# Altium integrated library Linear Technology Power Management Power Control.IntLib: 661 symbols (part 33 of 43)
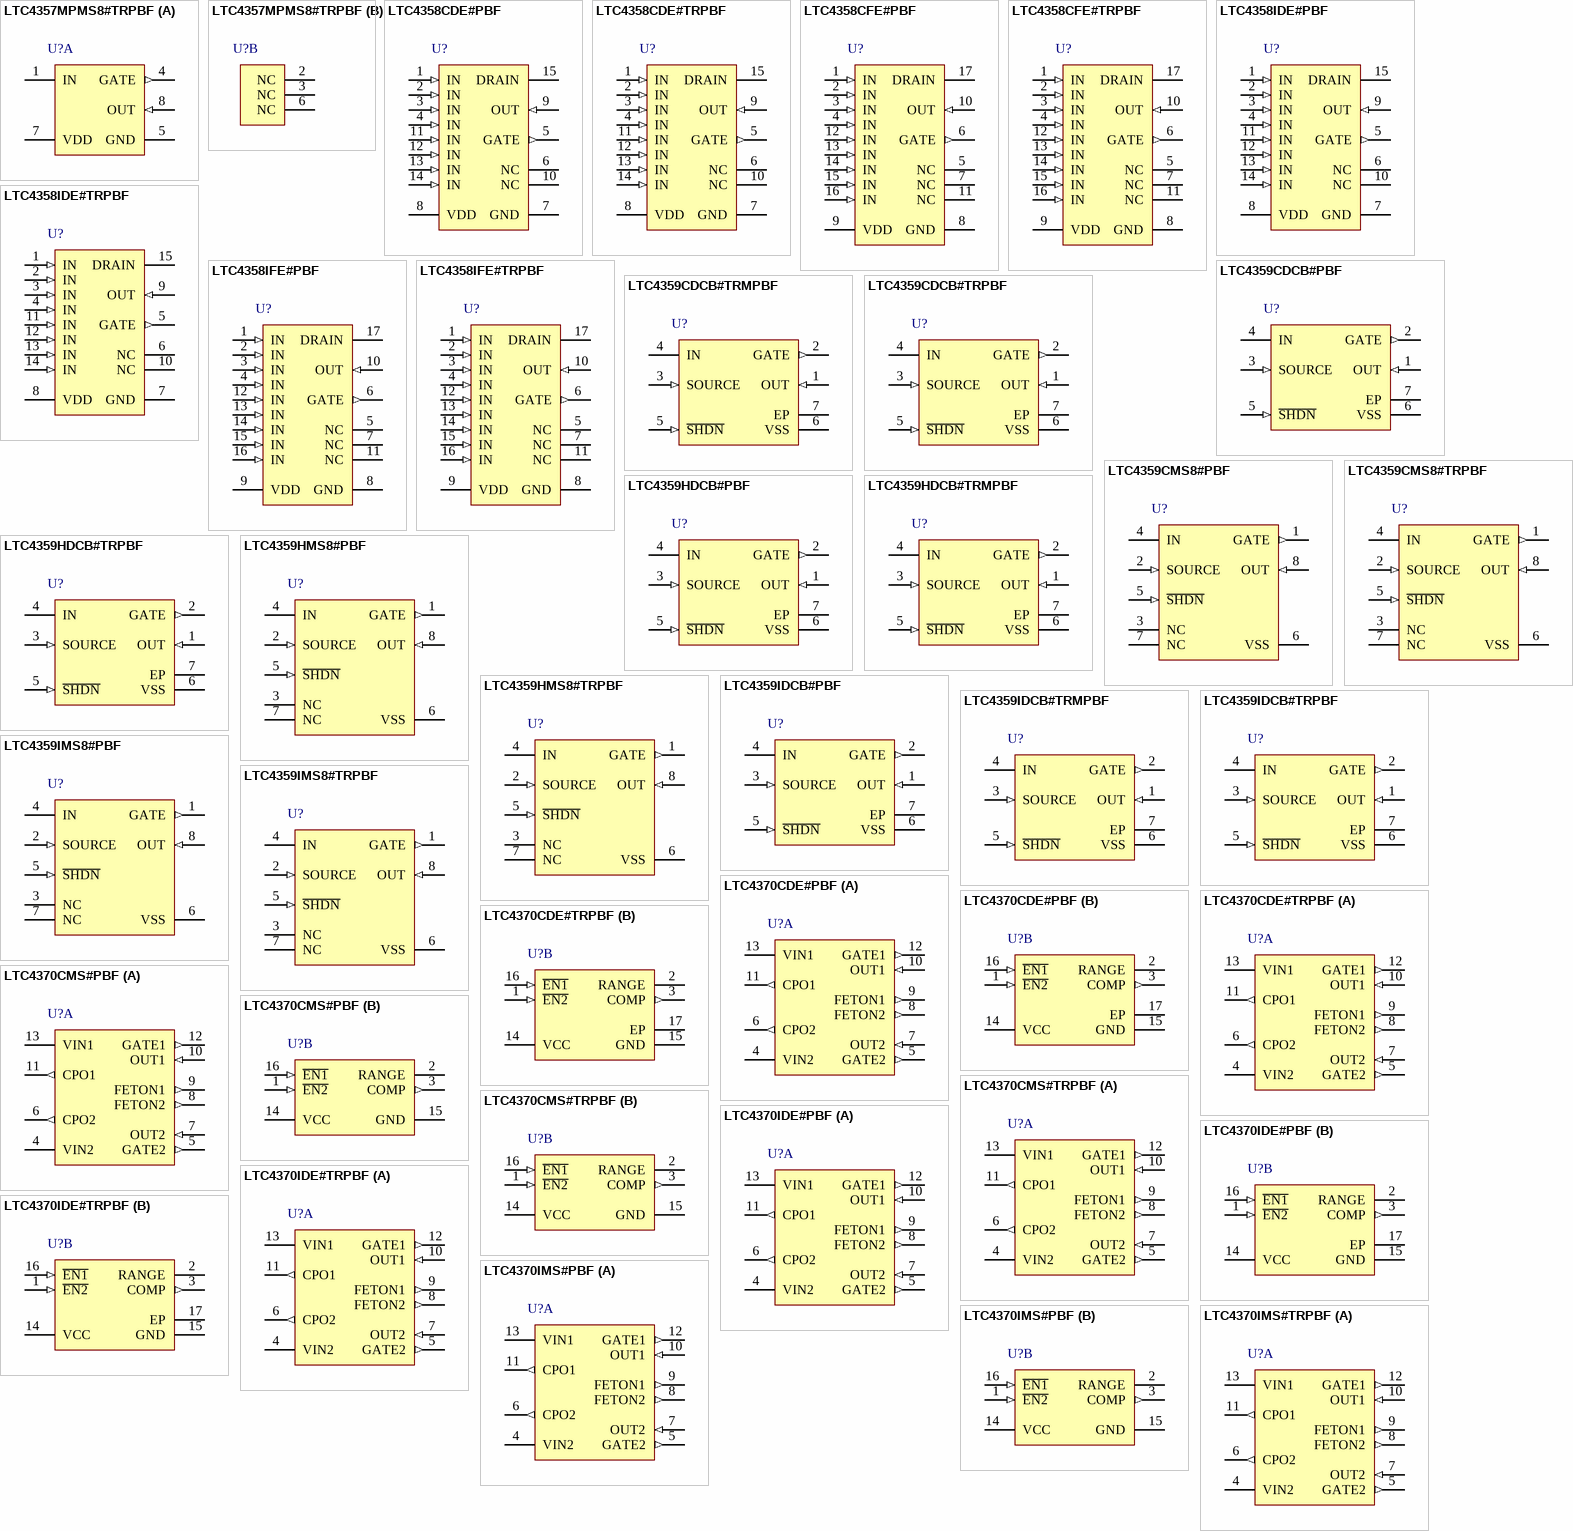
[diagram p51: symbols LTC4357MPMS8#TRPBF to LTC4370IMS#TRPBF]

## LTC4359CDCB#TRPBF
designator U?
Ideal Diode Controller with Reverse Input Protection, 4 to 80 V Vin, 6-pin SON (DCB-6), 0 to 70 degC, Pb-Free, Tape and Reel; Manufacturer: Linear Technology; PartNumber: LTC4359CDCB#TRPBF; Ideal Diode: Single, External, N-Channel; PackageVersion: Rev. A, 03/2011; PackageReference: DCB-6; PackageDescription: 6-Pin Plastic DFN, Body 2 x 3 mm, Pitch 0.5 mm; Supplier 1: Digi-Key; Supplier Part Number 1: LTC4359CDCB#TRPBF-ND; Packing: Tape and Reel; RoHS: TRUE; Mounting Technology: Surface Mount; Code_JEDEC: MO-229; ComponentLink1Description: Manufacturer URL; ComponentLink1URL: http://www.linear.com/; ComponentLink2Description: Datasheet; ComponentLink2URL: http://cds.linear.com/docs/en/datasheet/4359f.pdf; ComponentLink3Description: Package Specification; ComponentLink3URL: http://www.linear.com/docs/en/packaging/(DCB6)%20DFN%2005-08-1715%20Rev%20A.pdf
footprint LT-DCB-6_V (SON, 6-Leads, Body 3x2mm, Pitch 0.5mm, Thermal Pad 1.65x1.35mm)
pins: 1 OUT (in) "Drain Voltage Sense. OUT is the cathode of the ideal diode and the common output when multiple LTC4359s are configured as an ideal diode-OR. It connects either directly or through a 2k resistor to the drain of the N-channel (See Datasheet)", 2 GATE (out) "Gate Drive Output. The GATE pin pulls high, enhancing the N-channel MOSFET when the load current creates more than 30mV of voltage drop across the MOSFET. When the load current is small the gate is actively driven to (See Datasheet)", 3 SOURCE (in) "Source Connection. Source is the return path of the gate fast pull-down. Connect this pin as close as possible to the source of the external N-channel MOSFET.", 4 IN (power) "Voltage Sense and Supply Voltage. IN is the anode of the ideal diode. The voltage sensed at this pin is used to control the MOSFET gate.", 5 ~{SHDN} (in) "Shutdown Control Input. The LTC4359 can be shut down to a low current mode by pulling the S\H\D\N\ pin below 0.6V. Pulling this pin above 2V or disconnecting it allows an internal 2uA current source to turn the part on. (See Datasheet)", 6 VSS (power) "Supply Voltage Return and Device Ground.", 7 EP (power) "Exposed pad may be left open or connected to VSS."

## LTC4359CMS8#PBF
designator U?
Ideal Diode Controller with Reverse Input Protection, 4 to 80 V Vin, 8-pin SOP (MS8-8), 0 to 70 degC, Pb-Free; Manufacturer: Linear Technology; PartNumber: LTC4359CMS8#PBF; Ideal Diode: Single, External, N-Channel; PackageVersion: Rev. G, 03/2012; PackageReference: MS8-8; PackageDescription: 8-Pin Plastic MSOP, Body 3 x 3 mm, Pitch 0.65 mm; Supplier 1: Digi-Key; Supplier Part Number 1: LTC4359CMS8#PBF-ND; Supplier 2: Newark; Supplier Part Number 2: 94T1309; RoHS: TRUE; Mounting Technology: Surface Mount; ComponentLink1Description: Manufacturer URL; ComponentLink1URL: http://www.linear.com/; ComponentLink2Description: Datasheet; ComponentLink2URL: http://cds.linear.com/docs/en/datasheet/4359f.pdf; ComponentLink3Description: Package Specification; ComponentLink3URL: http://cds.linear.com/docs/en/packaging/05081660_G_MS8.pdf
footprint LT-MS8-8_N (SOP, 8-Leads, Body 3.1x3.1mm, Pitch 0.65mm, IPC Medium Density)
footprint LT-MS8-8_L (SOP, 8-Leads, Body 3.1x3.1mm, Pitch 0.65mm, IPC High Density)
footprint LT-MS8-8_M (SOP, 8-Leads, Body 3.1x3.1mm, Pitch 0.65mm, IPC Low Density)
pins: 1 GATE (out) "Gate Drive Output. The GATE pin pulls high, enhancing the N-channel MOSFET when the load current creates more than 30mV of voltage drop across the MOSFET. When the load current is small the gate is actively driven to (See Datasheet)", 2 SOURCE (in) "Source Connection. Source is the return path of the gate fast pull-down. Connect this pin as close as possible to the source of the external N-channel MOSFET.", 3 NC "No Connection. Not internally connected.", 4 IN (power) "Voltage Sense and Supply Voltage. IN is the anode of the ideal diode. The voltage sensed at this pin is used to control the MOSFET gate.", 5 ~{SHDN} (in) "Shutdown Control Input. The LTC4359 can be shut down to a low current mode by pulling the S\H\D\N\ pin below 0.6V. Pulling this pin above 2V or disconnecting it allows an internal 2uA current source to turn the part on. (See Datasheet)", 6 VSS (power) "Supply Voltage Return and Device Ground.", 7 NC "No Connection. Not internally connected.", 8 OUT (in) "Drain Voltage Sense. OUT is the cathode of the ideal diode and the common output when multiple LTC4359s are configured as an ideal diode-OR. It connects either directly or through a 2k resistor to the drain of the N-channel (See Datasheet)"

## LTC4359CMS8#TRPBF
designator U?
Ideal Diode Controller with Reverse Input Protection, 4 to 80 V Vin, 8-pin SOP (MS8-8), 0 to 70 degC, Pb-Free, Tape and Reel; Manufacturer: Linear Technology; PartNumber: LTC4359CMS8#TRPBF; Ideal Diode: Single, External, N-Channel; PackageVersion: Rev. G, 03/2012; PackageReference: MS8-8; PackageDescription: 8-Pin Plastic MSOP, Body 3 x 3 mm, Pitch 0.65 mm; Supplier 1: Digi-Key; Supplier Part Number 1: LTC4359CMS8#TRPBF-ND; Supplier 2: Newark; Supplier Part Number 2: 94T1310; Packing: Tape and Reel; RoHS: TRUE; Mounting Technology: Surface Mount; ComponentLink1Description: Manufacturer URL; ComponentLink1URL: http://www.linear.com/; ComponentLink2Description: Datasheet; ComponentLink2URL: http://cds.linear.com/docs/en/datasheet/4359f.pdf; ComponentLink3Description: Package Specification; ComponentLink3URL: http://cds.linear.com/docs/en/packaging/05081660_G_MS8.pdf
footprint LT-MS8-8_N (SOP, 8-Leads, Body 3.1x3.1mm, Pitch 0.65mm, IPC Medium Density)
footprint LT-MS8-8_L (SOP, 8-Leads, Body 3.1x3.1mm, Pitch 0.65mm, IPC High Density)
footprint LT-MS8-8_M (SOP, 8-Leads, Body 3.1x3.1mm, Pitch 0.65mm, IPC Low Density)
pins: 1 GATE (out) "Gate Drive Output. The GATE pin pulls high, enhancing the N-channel MOSFET when the load current creates more than 30mV of voltage drop across the MOSFET. When the load current is small the gate is actively driven to (See Datasheet)", 2 SOURCE (in) "Source Connection. Source is the return path of the gate fast pull-down. Connect this pin as close as possible to the source of the external N-channel MOSFET.", 3 NC "No Connection. Not internally connected.", 4 IN (power) "Voltage Sense and Supply Voltage. IN is the anode of the ideal diode. The voltage sensed at this pin is used to control the MOSFET gate.", 5 ~{SHDN} (in) "Shutdown Control Input. The LTC4359 can be shut down to a low current mode by pulling the S\H\D\N\ pin below 0.6V. Pulling this pin above 2V or disconnecting it allows an internal 2uA current source to turn the part on. (See Datasheet)", 6 VSS (power) "Supply Voltage Return and Device Ground.", 7 NC "No Connection. Not internally connected.", 8 OUT (in) "Drain Voltage Sense. OUT is the cathode of the ideal diode and the common output when multiple LTC4359s are configured as an ideal diode-OR. It connects either directly or through a 2k resistor to the drain of the N-channel (See Datasheet)"

## LTC4359HDCB#PBF
designator U?
Ideal Diode Controller with Reverse Input Protection, 4 to 80 V Vin, 6-pin SON (DCB-6), -40 to 125 degC, Pb-Free; Manufacturer: Linear Technology; PartNumber: LTC4359HDCB#PBF; Ideal Diode: Single, External, N-Channel; PackageVersion: Rev. A, 03/2011; PackageReference: DCB-6; PackageDescription: 6-Pin Plastic DFN, Body 2 x 3 mm, Pitch 0.5 mm; RoHS: TRUE; Mounting Technology: Surface Mount; Code_JEDEC: MO-229; ComponentLink1Description: Manufacturer URL; ComponentLink1URL: http://www.linear.com/; ComponentLink2Description: Datasheet; ComponentLink2URL: http://cds.linear.com/docs/en/datasheet/4359f.pdf; ComponentLink3Description: Package Specification; ComponentLink3URL: http://www.linear.com/docs/en/packaging/(DCB6)%20DFN%2005-08-1715%20Rev%20A.pdf
footprint LT-DCB-6_V (SON, 6-Leads, Body 3x2mm, Pitch 0.5mm, Thermal Pad 1.65x1.35mm)
pins: 1 OUT (in) "Drain Voltage Sense. OUT is the cathode of the ideal diode and the common output when multiple LTC4359s are configured as an ideal diode-OR. It connects either directly or through a 2k resistor to the drain of the N-channel (See Datasheet)", 2 GATE (out) "Gate Drive Output. The GATE pin pulls high, enhancing the N-channel MOSFET when the load current creates more than 30mV of voltage drop across the MOSFET. When the load current is small the gate is actively driven to (See Datasheet)", 3 SOURCE (in) "Source Connection. Source is the return path of the gate fast pull-down. Connect this pin as close as possible to the source of the external N-channel MOSFET.", 4 IN (power) "Voltage Sense and Supply Voltage. IN is the anode of the ideal diode. The voltage sensed at this pin is used to control the MOSFET gate.", 5 ~{SHDN} (in) "Shutdown Control Input. The LTC4359 can be shut down to a low current mode by pulling the S\H\D\N\ pin below 0.6V. Pulling this pin above 2V or disconnecting it allows an internal 2uA current source to turn the part on. (See Datasheet)", 6 VSS (power) "Supply Voltage Return and Device Ground.", 7 EP (power) "Exposed pad may be left open or connected to VSS."

## LTC4359HDCB#TRMPBF
designator U?
Ideal Diode Controller with Reverse Input Protection, 4 to 80 V Vin, 6-pin SON (DCB-6), -40 to 125 degC, Pb-Free, Mini Tape and Reel; Manufacturer: Linear Technology; PartNumber: LTC4359HDCB#TRMPBF; Ideal Diode: Single, External, N-Channel; PackageVersion: Rev. A, 03/2011; PackageReference: DCB-6; PackageDescription: 6-Pin Plastic DFN, Body 2 x 3 mm, Pitch 0.5 mm; Supplier 1: Digi-Key; Supplier Part Number 1: LTC4359HDCB#TRMPBF-ND; Supplier 2: Newark; Supplier Part Number 2: 94T1311; Packing: Mini Tape and Reel; RoHS: TRUE; Mounting Technology: Surface Mount; Code_JEDEC: MO-229; ComponentLink1Description: Manufacturer URL; ComponentLink1URL: http://www.linear.com/; ComponentLink2Description: Datasheet; ComponentLink2URL: http://cds.linear.com/docs/en/datasheet/4359f.pdf; ComponentLink3Description: Package Specification; ComponentLink3URL: http://www.linear.com/docs/en/packaging/(DCB6)%20DFN%2005-08-1715%20Rev%20A.pdf
footprint LT-DCB-6_V (SON, 6-Leads, Body 3x2mm, Pitch 0.5mm, Thermal Pad 1.65x1.35mm)
pins: 1 OUT (in) "Drain Voltage Sense. OUT is the cathode of the ideal diode and the common output when multiple LTC4359s are configured as an ideal diode-OR. It connects either directly or through a 2k resistor to the drain of the N-channel (See Datasheet)", 2 GATE (out) "Gate Drive Output. The GATE pin pulls high, enhancing the N-channel MOSFET when the load current creates more than 30mV of voltage drop across the MOSFET. When the load current is small the gate is actively driven to (See Datasheet)", 3 SOURCE (in) "Source Connection. Source is the return path of the gate fast pull-down. Connect this pin as close as possible to the source of the external N-channel MOSFET.", 4 IN (power) "Voltage Sense and Supply Voltage. IN is the anode of the ideal diode. The voltage sensed at this pin is used to control the MOSFET gate.", 5 ~{SHDN} (in) "Shutdown Control Input. The LTC4359 can be shut down to a low current mode by pulling the S\H\D\N\ pin below 0.6V. Pulling this pin above 2V or disconnecting it allows an internal 2uA current source to turn the part on. (See Datasheet)", 6 VSS (power) "Supply Voltage Return and Device Ground.", 7 EP (power) "Exposed pad may be left open or connected to VSS."

## LTC4359HDCB#TRPBF
designator U?
Ideal Diode Controller with Reverse Input Protection, 4 to 80 V Vin, 6-pin SON (DCB-6), -40 to 125 degC, Pb-Free, Tape and Reel; Manufacturer: Linear Technology; PartNumber: LTC4359HDCB#TRPBF; Ideal Diode: Single, External, N-Channel; PackageVersion: Rev. A, 03/2011; PackageReference: DCB-6; PackageDescription: 6-Pin Plastic DFN, Body 2 x 3 mm, Pitch 0.5 mm; Supplier 1: Digi-Key; Supplier Part Number 1: LTC4359HDCB#TRPBF-ND; Supplier 2: Newark; Supplier Part Number 2: 94T1312; Packing: Tape and Reel; RoHS: TRUE; Mounting Technology: Surface Mount; Code_JEDEC: MO-229; ComponentLink1Description: Manufacturer URL; ComponentLink1URL: http://www.linear.com/; ComponentLink2Description: Datasheet; ComponentLink2URL: http://cds.linear.com/docs/en/datasheet/4359f.pdf; ComponentLink3Description: Package Specification; ComponentLink3URL: http://www.linear.com/docs/en/packaging/(DCB6)%20DFN%2005-08-1715%20Rev%20A.pdf
footprint LT-DCB-6_V (SON, 6-Leads, Body 3x2mm, Pitch 0.5mm, Thermal Pad 1.65x1.35mm)
pins: 1 OUT (in) "Drain Voltage Sense. OUT is the cathode of the ideal diode and the common output when multiple LTC4359s are configured as an ideal diode-OR. It connects either directly or through a 2k resistor to the drain of the N-channel (See Datasheet)", 2 GATE (out) "Gate Drive Output. The GATE pin pulls high, enhancing the N-channel MOSFET when the load current creates more than 30mV of voltage drop across the MOSFET. When the load current is small the gate is actively driven to (See Datasheet)", 3 SOURCE (in) "Source Connection. Source is the return path of the gate fast pull-down. Connect this pin as close as possible to the source of the external N-channel MOSFET.", 4 IN (power) "Voltage Sense and Supply Voltage. IN is the anode of the ideal diode. The voltage sensed at this pin is used to control the MOSFET gate.", 5 ~{SHDN} (in) "Shutdown Control Input. The LTC4359 can be shut down to a low current mode by pulling the S\H\D\N\ pin below 0.6V. Pulling this pin above 2V or disconnecting it allows an internal 2uA current source to turn the part on. (See Datasheet)", 6 VSS (power) "Supply Voltage Return and Device Ground.", 7 EP (power) "Exposed pad may be left open or connected to VSS."

## LTC4359HMS8#PBF
designator U?
Ideal Diode Controller with Reverse Input Protection, 4 to 80 V Vin, 8-pin SOP (MS8-8), -40 to 125 degC, Pb-Free; Manufacturer: Linear Technology; PartNumber: LTC4359HMS8#PBF; Ideal Diode: Single, External, N-Channel; PackageVersion: Rev. G, 03/2012; PackageReference: MS8-8; PackageDescription: 8-Pin Plastic MSOP, Body 3 x 3 mm, Pitch 0.65 mm; Supplier 1: Digi-Key; Supplier Part Number 1: LTC4359HMS8#PBF-ND; Supplier 2: Newark; Supplier Part Number 2: 94T1313; RoHS: TRUE; Mounting Technology: Surface Mount; ComponentLink1Description: Manufacturer URL; ComponentLink1URL: http://www.linear.com/; ComponentLink2Description: Datasheet; ComponentLink2URL: http://cds.linear.com/docs/en/datasheet/4359f.pdf; ComponentLink3Description: Package Specification; ComponentLink3URL: http://cds.linear.com/docs/en/packaging/05081660_G_MS8.pdf
footprint LT-MS8-8_N (SOP, 8-Leads, Body 3.1x3.1mm, Pitch 0.65mm, IPC Medium Density)
footprint LT-MS8-8_L (SOP, 8-Leads, Body 3.1x3.1mm, Pitch 0.65mm, IPC High Density)
footprint LT-MS8-8_M (SOP, 8-Leads, Body 3.1x3.1mm, Pitch 0.65mm, IPC Low Density)
pins: 1 GATE (out) "Gate Drive Output. The GATE pin pulls high, enhancing the N-channel MOSFET when the load current creates more than 30mV of voltage drop across the MOSFET. When the load current is small the gate is actively driven to (See Datasheet)", 2 SOURCE (in) "Source Connection. Source is the return path of the gate fast pull-down. Connect this pin as close as possible to the source of the external N-channel MOSFET.", 3 NC "No Connection. Not internally connected.", 4 IN (power) "Voltage Sense and Supply Voltage. IN is the anode of the ideal diode. The voltage sensed at this pin is used to control the MOSFET gate.", 5 ~{SHDN} (in) "Shutdown Control Input. The LTC4359 can be shut down to a low current mode by pulling the S\H\D\N\ pin below 0.6V. Pulling this pin above 2V or disconnecting it allows an internal 2uA current source to turn the part on. (See Datasheet)", 6 VSS (power) "Supply Voltage Return and Device Ground.", 7 NC "No Connection. Not internally connected.", 8 OUT (in) "Drain Voltage Sense. OUT is the cathode of the ideal diode and the common output when multiple LTC4359s are configured as an ideal diode-OR. It connects either directly or through a 2k resistor to the drain of the N-channel (See Datasheet)"

## LTC4359HMS8#TRPBF
designator U?
Ideal Diode Controller with Reverse Input Protection, 4 to 80 V Vin, 8-pin SOP (MS8-8), -40 to 125 degC, Pb-Free, Tape and Reel; Manufacturer: Linear Technology; PartNumber: LTC4359HMS8#TRPBF; Ideal Diode: Single, External, N-Channel; PackageVersion: Rev. G, 03/2012; PackageReference: MS8-8; PackageDescription: 8-Pin Plastic MSOP, Body 3 x 3 mm, Pitch 0.65 mm; Supplier 1: Digi-Key; Supplier Part Number 1: LTC4359HMS8#TRPBF-ND; Packing: Tape and Reel; RoHS: TRUE; Mounting Technology: Surface Mount; ComponentLink1Description: Manufacturer URL; ComponentLink1URL: http://www.linear.com/; ComponentLink2Description: Datasheet; ComponentLink2URL: http://cds.linear.com/docs/en/datasheet/4359f.pdf; ComponentLink3Description: Package Specification; ComponentLink3URL: http://cds.linear.com/docs/en/packaging/05081660_G_MS8.pdf
footprint LT-MS8-8_N (SOP, 8-Leads, Body 3.1x3.1mm, Pitch 0.65mm, IPC Medium Density)
footprint LT-MS8-8_L (SOP, 8-Leads, Body 3.1x3.1mm, Pitch 0.65mm, IPC High Density)
footprint LT-MS8-8_M (SOP, 8-Leads, Body 3.1x3.1mm, Pitch 0.65mm, IPC Low Density)
pins: 1 GATE (out) "Gate Drive Output. The GATE pin pulls high, enhancing the N-channel MOSFET when the load current creates more than 30mV of voltage drop across the MOSFET. When the load current is small the gate is actively driven to (See Datasheet)", 2 SOURCE (in) "Source Connection. Source is the return path of the gate fast pull-down. Connect this pin as close as possible to the source of the external N-channel MOSFET.", 3 NC "No Connection. Not internally connected.", 4 IN (power) "Voltage Sense and Supply Voltage. IN is the anode of the ideal diode. The voltage sensed at this pin is used to control the MOSFET gate.", 5 ~{SHDN} (in) "Shutdown Control Input. The LTC4359 can be shut down to a low current mode by pulling the S\H\D\N\ pin below 0.6V. Pulling this pin above 2V or disconnecting it allows an internal 2uA current source to turn the part on. (See Datasheet)", 6 VSS (power) "Supply Voltage Return and Device Ground.", 7 NC "No Connection. Not internally connected.", 8 OUT (in) "Drain Voltage Sense. OUT is the cathode of the ideal diode and the common output when multiple LTC4359s are configured as an ideal diode-OR. It connects either directly or through a 2k resistor to the drain of the N-channel (See Datasheet)"

## LTC4359IDCB#PBF
designator U?
Ideal Diode Controller with Reverse Input Protection, 4 to 80 V Vin, 6-pin SON (DCB-6), -40 to 85 degC, Pb-Free; Manufacturer: Linear Technology; PartNumber: LTC4359IDCB#PBF; Ideal Diode: Single, External, N-Channel; PackageVersion: Rev. A, 03/2011; PackageReference: DCB-6; PackageDescription: 6-Pin Plastic DFN, Body 2 x 3 mm, Pitch 0.5 mm; RoHS: TRUE; Mounting Technology: Surface Mount; Code_JEDEC: MO-229; ComponentLink1Description: Manufacturer URL; ComponentLink1URL: http://www.linear.com/; ComponentLink2Description: Datasheet; ComponentLink2URL: http://cds.linear.com/docs/en/datasheet/4359f.pdf; ComponentLink3Description: Package Specification; ComponentLink3URL: http://www.linear.com/docs/en/packaging/(DCB6)%20DFN%2005-08-1715%20Rev%20A.pdf
footprint LT-DCB-6_V (SON, 6-Leads, Body 3x2mm, Pitch 0.5mm, Thermal Pad 1.65x1.35mm)
pins: 1 OUT (in) "Drain Voltage Sense. OUT is the cathode of the ideal diode and the common output when multiple LTC4359s are configured as an ideal diode-OR. It connects either directly or through a 2k resistor to the drain of the N-channel (See Datasheet)", 2 GATE (out) "Gate Drive Output. The GATE pin pulls high, enhancing the N-channel MOSFET when the load current creates more than 30mV of voltage drop across the MOSFET. When the load current is small the gate is actively driven to (See Datasheet)", 3 SOURCE (in) "Source Connection. Source is the return path of the gate fast pull-down. Connect this pin as close as possible to the source of the external N-channel MOSFET.", 4 IN (power) "Voltage Sense and Supply Voltage. IN is the anode of the ideal diode. The voltage sensed at this pin is used to control the MOSFET gate.", 5 ~{SHDN} (in) "Shutdown Control Input. The LTC4359 can be shut down to a low current mode by pulling the S\H\D\N\ pin below 0.6V. Pulling this pin above 2V or disconnecting it allows an internal 2uA current source to turn the part on. (See Datasheet)", 6 VSS (power) "Supply Voltage Return and Device Ground.", 7 EP (power) "Exposed pad may be left open or connected to VSS."

## LTC4359IDCB#TRMPBF
designator U?
Ideal Diode Controller with Reverse Input Protection, 4 to 80 V Vin, 6-pin SON (DCB-6), -40 to 85 degC, Pb-Free, Mini Tape and Reel; Manufacturer: Linear Technology; PartNumber: LTC4359IDCB#TRMPBF; Ideal Diode: Single, External, N-Channel; PackageVersion: Rev. A, 03/2011; PackageReference: DCB-6; PackageDescription: 6-Pin Plastic DFN, Body 2 x 3 mm, Pitch 0.5 mm; Supplier 1: Digi-Key; Supplier Part Number 1: LTC4359IDCB#TRMPBFTR-ND; Supplier 2: Digi-Key; Supplier Part Number 2: LTC4359IDCB#TRMPBFCT-ND; Supplier 3: Digi-Key; Supplier Part Number 3: LTC4359IDCB#TRMPBFDKR-ND; Supplier 4: Newark; Supplier Part Number 4: 94T1315; Packing: Mini Tape and Reel; RoHS: TRUE; Mounting Technology: Surface Mount; Code_JEDEC: MO-229; ComponentLink1Description: Manufacturer URL; ComponentLink1URL: http://www.linear.com/; ComponentLink2Description: Datasheet; ComponentLink2URL: http://cds.linear.com/docs/en/datasheet/4359f.pdf; ComponentLink3Description: Package Specification; ComponentLink3URL: http://www.linear.com/docs/en/packaging/(DCB6)%20DFN%2005-08-1715%20Rev%20A.pdf
footprint LT-DCB-6_V (SON, 6-Leads, Body 3x2mm, Pitch 0.5mm, Thermal Pad 1.65x1.35mm)
pins: 1 OUT (in) "Drain Voltage Sense. OUT is the cathode of the ideal diode and the common output when multiple LTC4359s are configured as an ideal diode-OR. It connects either directly or through a 2k resistor to the drain of the N-channel (See Datasheet)", 2 GATE (out) "Gate Drive Output. The GATE pin pulls high, enhancing the N-channel MOSFET when the load current creates more than 30mV of voltage drop across the MOSFET. When the load current is small the gate is actively driven to (See Datasheet)", 3 SOURCE (in) "Source Connection. Source is the return path of the gate fast pull-down. Connect this pin as close as possible to the source of the external N-channel MOSFET.", 4 IN (power) "Voltage Sense and Supply Voltage. IN is the anode of the ideal diode. The voltage sensed at this pin is used to control the MOSFET gate.", 5 ~{SHDN} (in) "Shutdown Control Input. The LTC4359 can be shut down to a low current mode by pulling the S\H\D\N\ pin below 0.6V. Pulling this pin above 2V or disconnecting it allows an internal 2uA current source to turn the part on. (See Datasheet)", 6 VSS (power) "Supply Voltage Return and Device Ground.", 7 EP (power) "Exposed pad may be left open or connected to VSS."

## LTC4359IDCB#TRPBF
designator U?
Ideal Diode Controller with Reverse Input Protection, 4 to 80 V Vin, 6-pin SON (DCB-6), -40 to 85 degC, Pb-Free, Tape and Reel; Manufacturer: Linear Technology; PartNumber: LTC4359IDCB#TRPBF; Ideal Diode: Single, External, N-Channel; PackageVersion: Rev. A, 03/2011; PackageReference: DCB-6; PackageDescription: 6-Pin Plastic DFN, Body 2 x 3 mm, Pitch 0.5 mm; Supplier 1: Digi-Key; Supplier Part Number 1: LTC4359IDCB#TRPBF-ND; Packing: Tape and Reel; RoHS: TRUE; Mounting Technology: Surface Mount; Code_JEDEC: MO-229; ComponentLink1Description: Manufacturer URL; ComponentLink1URL: http://www.linear.com/; ComponentLink2Description: Datasheet; ComponentLink2URL: http://cds.linear.com/docs/en/datasheet/4359f.pdf; ComponentLink3Description: Package Specification; ComponentLink3URL: http://www.linear.com/docs/en/packaging/(DCB6)%20DFN%2005-08-1715%20Rev%20A.pdf
footprint LT-DCB-6_V (SON, 6-Leads, Body 3x2mm, Pitch 0.5mm, Thermal Pad 1.65x1.35mm)
pins: 1 OUT (in) "Drain Voltage Sense. OUT is the cathode of the ideal diode and the common output when multiple LTC4359s are configured as an ideal diode-OR. It connects either directly or through a 2k resistor to the drain of the N-channel (See Datasheet)", 2 GATE (out) "Gate Drive Output. The GATE pin pulls high, enhancing the N-channel MOSFET when the load current creates more than 30mV of voltage drop across the MOSFET. When the load current is small the gate is actively driven to (See Datasheet)", 3 SOURCE (in) "Source Connection. Source is the return path of the gate fast pull-down. Connect this pin as close as possible to the source of the external N-channel MOSFET.", 4 IN (power) "Voltage Sense and Supply Voltage. IN is the anode of the ideal diode. The voltage sensed at this pin is used to control the MOSFET gate.", 5 ~{SHDN} (in) "Shutdown Control Input. The LTC4359 can be shut down to a low current mode by pulling the S\H\D\N\ pin below 0.6V. Pulling this pin above 2V or disconnecting it allows an internal 2uA current source to turn the part on. (See Datasheet)", 6 VSS (power) "Supply Voltage Return and Device Ground.", 7 EP (power) "Exposed pad may be left open or connected to VSS."

## LTC4359IMS8#PBF
designator U?
Ideal Diode Controller with Reverse Input Protection, 4 to 80 V Vin, 8-pin SOP (MS8-8), -40 to 85 degC, Pb-Free; Manufacturer: Linear Technology; PartNumber: LTC4359IMS8#PBF; Ideal Diode: Single, External, N-Channel; PackageVersion: Rev. G, 03/2012; PackageReference: MS8-8; PackageDescription: 8-Pin Plastic MSOP, Body 3 x 3 mm, Pitch 0.65 mm; Supplier 1: Digi-Key; Supplier Part Number 1: LTC4359IMS8#PBF-ND; Supplier 2: Newark; Supplier Part Number 2: 94T1317; RoHS: TRUE; Mounting Technology: Surface Mount; ComponentLink1Description: Manufacturer URL; ComponentLink1URL: http://www.linear.com/; ComponentLink2Description: Datasheet; ComponentLink2URL: http://cds.linear.com/docs/en/datasheet/4359f.pdf; ComponentLink3Description: Package Specification; ComponentLink3URL: http://cds.linear.com/docs/en/packaging/05081660_G_MS8.pdf
footprint LT-MS8-8_N (SOP, 8-Leads, Body 3.1x3.1mm, Pitch 0.65mm, IPC Medium Density)
footprint LT-MS8-8_L (SOP, 8-Leads, Body 3.1x3.1mm, Pitch 0.65mm, IPC High Density)
footprint LT-MS8-8_M (SOP, 8-Leads, Body 3.1x3.1mm, Pitch 0.65mm, IPC Low Density)
pins: 1 GATE (out) "Gate Drive Output. The GATE pin pulls high, enhancing the N-channel MOSFET when the load current creates more than 30mV of voltage drop across the MOSFET. When the load current is small the gate is actively driven to (See Datasheet)", 2 SOURCE (in) "Source Connection. Source is the return path of the gate fast pull-down. Connect this pin as close as possible to the source of the external N-channel MOSFET.", 3 NC "No Connection. Not internally connected.", 4 IN (power) "Voltage Sense and Supply Voltage. IN is the anode of the ideal diode. The voltage sensed at this pin is used to control the MOSFET gate.", 5 ~{SHDN} (in) "Shutdown Control Input. The LTC4359 can be shut down to a low current mode by pulling the S\H\D\N\ pin below 0.6V. Pulling this pin above 2V or disconnecting it allows an internal 2uA current source to turn the part on. (See Datasheet)", 6 VSS (power) "Supply Voltage Return and Device Ground.", 7 NC "No Connection. Not internally connected.", 8 OUT (in) "Drain Voltage Sense. OUT is the cathode of the ideal diode and the common output when multiple LTC4359s are configured as an ideal diode-OR. It connects either directly or through a 2k resistor to the drain of the N-channel (See Datasheet)"

## LTC4359IMS8#TRPBF
designator U?
Ideal Diode Controller with Reverse Input Protection, 4 to 80 V Vin, 8-pin SOP (MS8-8), -40 to 85 degC, Pb-Free, Tape and Reel; Manufacturer: Linear Technology; PartNumber: LTC4359IMS8#TRPBF; Ideal Diode: Single, External, N-Channel; PackageVersion: Rev. G, 03/2012; PackageReference: MS8-8; PackageDescription: 8-Pin Plastic MSOP, Body 3 x 3 mm, Pitch 0.65 mm; Supplier 1: Digi-Key; Supplier Part Number 1: LTC4359IMS8#TRPBF-ND; Packing: Tape and Reel; RoHS: TRUE; Mounting Technology: Surface Mount; ComponentLink1Description: Manufacturer URL; ComponentLink1URL: http://www.linear.com/; ComponentLink2Description: Datasheet; ComponentLink2URL: http://cds.linear.com/docs/en/datasheet/4359f.pdf; ComponentLink3Description: Package Specification; ComponentLink3URL: http://cds.linear.com/docs/en/packaging/05081660_G_MS8.pdf
footprint LT-MS8-8_N (SOP, 8-Leads, Body 3.1x3.1mm, Pitch 0.65mm, IPC Medium Density)
footprint LT-MS8-8_L (SOP, 8-Leads, Body 3.1x3.1mm, Pitch 0.65mm, IPC High Density)
footprint LT-MS8-8_M (SOP, 8-Leads, Body 3.1x3.1mm, Pitch 0.65mm, IPC Low Density)
pins: 1 GATE (out) "Gate Drive Output. The GATE pin pulls high, enhancing the N-channel MOSFET when the load current creates more than 30mV of voltage drop across the MOSFET. When the load current is small the gate is actively driven to (See Datasheet)", 2 SOURCE (in) "Source Connection. Source is the return path of the gate fast pull-down. Connect this pin as close as possible to the source of the external N-channel MOSFET.", 3 NC "No Connection. Not internally connected.", 4 IN (power) "Voltage Sense and Supply Voltage. IN is the anode of the ideal diode. The voltage sensed at this pin is used to control the MOSFET gate.", 5 ~{SHDN} (in) "Shutdown Control Input. The LTC4359 can be shut down to a low current mode by pulling the S\H\D\N\ pin below 0.6V. Pulling this pin above 2V or disconnecting it allows an internal 2uA current source to turn the part on. (See Datasheet)", 6 VSS (power) "Supply Voltage Return and Device Ground.", 7 NC "No Connection. Not internally connected.", 8 OUT (in) "Drain Voltage Sense. OUT is the cathode of the ideal diode and the common output when multiple LTC4359s are configured as an ideal diode-OR. It connects either directly or through a 2k resistor to the drain of the N-channel (See Datasheet)"

## LTC4370CDE#PBF
designator U?
Two-Supply Diode-OR Current Balancing Controller, 0 to 18 V Vin, 16-pin SON (DE-16), 0 to 70 degC, Pb-Free; Manufacturer: Linear Technology; PartNumber: LTC4370CDE#PBF; Ideal Diode: Dual, External, N-Channel; PackageVersion: Rev. Ø, 06/2010; PackageReference: DE-16; PackageDescription: 16-Pin Plastic DFN, Body 4 x 3 mm, Pitch 0.45 mm; Supplier 1: Digi-Key; Supplier Part Number 1: LTC4370CDE#PBF-ND; Supplier 2: Farnell; Supplier Part Number 2: 2115822; Supplier 3: Newark; Supplier Part Number 3: 05W4628; RoHS: TRUE; Mounting Technology: Surface Mount; Code_JEDEC: MO-229; ComponentLink1Description: Manufacturer URL; ComponentLink1URL: http://www.linear.com/; ComponentLink2Description: Datasheet; ComponentLink2URL: http://cds.linear.com/docs/en/datasheet/4370f.pdf; ComponentLink3Description: Package Specification; ComponentLink3URL: http://cds.linear.com/docs/en/packaging/DFN_16_05-08-1732.pdf
footprint LT-DE-16_V (SON, 16-Leads, Body 4x3mm, Pitch 0.45mm, Thermal Pad 3.3x1.7mm)
part A pins: 4 VIN2 (power) "Voltage Sense and Supply Input. Connect this pin to the supply side of the MOSFET. The low voltage supply VCC is generated from the higher of VIN1 and VIN2. The voltage sensed at this pin is used to control the MOSFET gate.", 5 GATE2 (out) "MOSFET Gate Drive Output.Connect this pin to the gate of the external N-channel MOSFET switch. An internal clamp limits the gate voltage to 12V above, and a diode below the input supply. During fast turn-on, a 1.4A pull-up (See Datasheet)", 6 CPO2 (out) "Charge Pump Output. Connect a capacitor from this pin to the corresponding VIN pin. The value of this capacitor should be approximately 10x the gate capacitance (CISS) of the MOSFET switch. The charge stored on this (See Datasheet)", 7 OUT2 (in) "Output Voltage and Current Sense Input. Connect this pin to the input side of the supply’s current sense resistor. A Kelvin connection is important for accurate current sharing. The voltage sensed at this pin is used t(See Datasheet)", 8 FETON2 (out) "MOSFET Status Output. This pin is pulled low by an internal switch when GATE is less than 0.7V above VIN to indicate an off MOSFET. Because of this, it may also signal off if small currents are flowing through a high-gm (See Datasheet)", 9 FETON1 (out) "MOSFET Status Output. This pin is pulled low by an internal switch when GATE is less than 0.7V above VIN to indicate an off MOSFET. Because of this, it may also signal off if small currents are flowing through a high-gm (See Datasheet)", 10 OUT1 (in) "Output Voltage and Current Sense Input. Connect this pin to the input side of the supply’s current sense resistor. A Kelvin connection is important for accurate current sharing. The voltage sensed at this pin is used t(See Datasheet)", 11 CPO1 (out) "Charge Pump Output. Connect a capacitor from this pin to the corresponding VIN pin. The value of this capacitor should be approximately 10x the gate capacitance (CISS) of the MOSFET switch. The charge stored on this (See Datasheet)", 12 GATE1 (out) "MOSFET Gate Drive Output.Connect this pin to the gate of the external N-channel MOSFET switch. An internal clamp limits the gate voltage to 12V above, and a diode below the input supply. During fast turn-on, a 1.4A pull-up (See Datasheet)", 13 VIN1 (power) "Voltage Sense and Supply Input. Connect this pin to the supply side of the MOSFET. The low voltage supply VCC is generated from the higher of VIN1 and VIN2. The voltage sensed at this pin is used to control the MOSFET gate."
part B pins: 1 ~{EN2} (in) "Enable Input. Keep this pin below 0.6V to enable sharing and diode control on the corresponding supply. Driving this pin high shuts off the MOSFET gate (current can still flow through its body diode). The comparator has a (See Datasheet)", 2 RANGE "Supply Differential Voltage Load Sharing Range. Connect a resistor (below 60k) from this pin to GND. A 10uA internal pull-up current source into this resistor sets the pin voltage VRANGE. The two supplies will typically (See Datasheet)", 3 COMP (out) "Error Amplifier Compensation. Connect a capacitor from this pin to GND. The value of this capacitor should be approximately 10 to 50 times the gate capacitance (CISS) of the MOSFET switch. Maintain low board leakage on this (See Datasheet)", 14 VCC (power) "Low Voltage Supply. Connect a 0.1uF capacitor from this pin to ground. For VIN >= 2.9V this pin provides decoupling for an internal regulator that generates a 5V supply. For applications where both VIN < 2.9V, also connect (See Datasheet)", 15 GND (power) "Device Ground.", 16 ~{EN1} (in) "Enable Input. Keep this pin below 0.6V to enable sharing and diode control on the corresponding supply. Driving this pin high shuts off the MOSFET gate (current can still flow through its body diode). The comparator has a (See Datasheet)", 17 EP (power) "The exposed pad may be left open or connected to device ground."

## LTC4370CDE#TRPBF
designator U?
Two-Supply Diode-OR Current Balancing Controller, 0 to 18 V Vin, 16-pin SON (DE-16), 0 to 70 degC, Pb-Free, Tape and Reel; Manufacturer: Linear Technology; PartNumber: LTC4370CDE#TRPBF; Ideal Diode: Dual, External, N-Channel; PackageVersion: Rev. Ø, 06/2010; PackageReference: DE-16; PackageDescription: 16-Pin Plastic DFN, Body 4 x 3 mm, Pitch 0.45 mm; Supplier 1: Newark; Supplier Part Number 1: 05W4629; Packing: Tape and Reel; RoHS: TRUE; Mounting Technology: Surface Mount; Code_JEDEC: MO-229; ComponentLink1Description: Manufacturer URL; ComponentLink1URL: http://www.linear.com/; ComponentLink2Description: Datasheet; ComponentLink2URL: http://cds.linear.com/docs/en/datasheet/4370f.pdf; ComponentLink3Description: Package Specification; ComponentLink3URL: http://cds.linear.com/docs/en/packaging/DFN_16_05-08-1732.pdf
footprint LT-DE-16_V (SON, 16-Leads, Body 4x3mm, Pitch 0.45mm, Thermal Pad 3.3x1.7mm)
part A pins: 4 VIN2 (power) "Voltage Sense and Supply Input. Connect this pin to the supply side of the MOSFET. The low voltage supply VCC is generated from the higher of VIN1 and VIN2. The voltage sensed at this pin is used to control the MOSFET gate.", 5 GATE2 (out) "MOSFET Gate Drive Output.Connect this pin to the gate of the external N-channel MOSFET switch. An internal clamp limits the gate voltage to 12V above, and a diode below the input supply. During fast turn-on, a 1.4A pull-up (See Datasheet)", 6 CPO2 (out) "Charge Pump Output. Connect a capacitor from this pin to the corresponding VIN pin. The value of this capacitor should be approximately 10x the gate capacitance (CISS) of the MOSFET switch. The charge stored on this (See Datasheet)", 7 OUT2 (in) "Output Voltage and Current Sense Input. Connect this pin to the input side of the supply’s current sense resistor. A Kelvin connection is important for accurate current sharing. The voltage sensed at this pin is used t(See Datasheet)", 8 FETON2 (out) "MOSFET Status Output. This pin is pulled low by an internal switch when GATE is less than 0.7V above VIN to indicate an off MOSFET. Because of this, it may also signal off if small currents are flowing through a high-gm (See Datasheet)", 9 FETON1 (out) "MOSFET Status Output. This pin is pulled low by an internal switch when GATE is less than 0.7V above VIN to indicate an off MOSFET. Because of this, it may also signal off if small currents are flowing through a high-gm (See Datasheet)", 10 OUT1 (in) "Output Voltage and Current Sense Input. Connect this pin to the input side of the supply’s current sense resistor. A Kelvin connection is important for accurate current sharing. The voltage sensed at this pin is used t(See Datasheet)", 11 CPO1 (out) "Charge Pump Output. Connect a capacitor from this pin to the corresponding VIN pin. The value of this capacitor should be approximately 10x the gate capacitance (CISS) of the MOSFET switch. The charge stored on this (See Datasheet)", 12 GATE1 (out) "MOSFET Gate Drive Output.Connect this pin to the gate of the external N-channel MOSFET switch. An internal clamp limits the gate voltage to 12V above, and a diode below the input supply. During fast turn-on, a 1.4A pull-up (See Datasheet)", 13 VIN1 (power) "Voltage Sense and Supply Input. Connect this pin to the supply side of the MOSFET. The low voltage supply VCC is generated from the higher of VIN1 and VIN2. The voltage sensed at this pin is used to control the MOSFET gate."
part B pins: 1 ~{EN2} (in) "Enable Input. Keep this pin below 0.6V to enable sharing and diode control on the corresponding supply. Driving this pin high shuts off the MOSFET gate (current can still flow through its body diode). The comparator has a (See Datasheet)", 2 RANGE "Supply Differential Voltage Load Sharing Range. Connect a resistor (below 60k) from this pin to GND. A 10uA internal pull-up current source into this resistor sets the pin voltage VRANGE. The two supplies will typically (See Datasheet)", 3 COMP (out) "Error Amplifier Compensation. Connect a capacitor from this pin to GND. The value of this capacitor should be approximately 10 to 50 times the gate capacitance (CISS) of the MOSFET switch. Maintain low board leakage on this (See Datasheet)", 14 VCC (power) "Low Voltage Supply. Connect a 0.1uF capacitor from this pin to ground. For VIN >= 2.9V this pin provides decoupling for an internal regulator that generates a 5V supply. For applications where both VIN < 2.9V, also connect (See Datasheet)", 15 GND (power) "Device Ground.", 16 ~{EN1} (in) "Enable Input. Keep this pin below 0.6V to enable sharing and diode control on the corresponding supply. Driving this pin high shuts off the MOSFET gate (current can still flow through its body diode). The comparator has a (See Datasheet)", 17 EP (power) "The exposed pad may be left open or connected to device ground."

## LTC4370CMS#PBF
designator U?
Two-Supply Diode-OR Current Balancing Controller, 0 to 18 V Vin, 16-pin SOP (MS-16), 0 to 70 degC, Pb-Free; Manufacturer: Linear Technology; PartNumber: LTC4370CMS#PBF; Ideal Diode: Dual, External, N-Channel; PackageVersion: Rev. Ø, 06/2010; PackageReference: MS16; PackageDescription: 16-Pin Plastic MSOP, Body 4.04 x 3.00 mm, Pitch 0.50 mm; Supplier 1: Digi-Key; Supplier Part Number 1: LTC4370CMS#PBF-ND; Supplier 2: Farnell; Supplier Part Number 2: 2115823; Supplier 3: Newark; Supplier Part Number 3: 05W4630; RoHS: TRUE; Mounting Technology: Surface Mount; ComponentLink1Description: Manufacturer URL; ComponentLink1URL: http://www.linear.com/; ComponentLink2Description: Datasheet; ComponentLink2URL: http://cds.linear.com/docs/en/datasheet/4370f.pdf; ComponentLink3Description: Package Specification; ComponentLink3URL: http://cds.linear.com/docs/en/packaging/05081669_A_MS16.pdf
footprint LT-MS-16_N (SOP, 16-Leads, Body 4.1x3.1mm, Pitch 0.5mm, IPC Medium Density)
footprint LT-MS-16_L (SOP, 16-Leads, Body 4.1x3.1mm, Pitch 0.5mm, IPC High Density)
footprint LT-MS-16_M (SOP, 16-Leads, Body 4.1x3.1mm, Pitch 0.5mm, IPC Low Density)
part A pins: 4 VIN2 (power) "Voltage Sense and Supply Input. Connect this pin to the supply side of the MOSFET. The low voltage supply VCC is generated from the higher of VIN1 and VIN2. The voltage sensed at this pin is used to control the MOSFET gate.", 5 GATE2 (out) "MOSFET Gate Drive Output.Connect this pin to the gate of the external N-channel MOSFET switch. An internal clamp limits the gate voltage to 12V above, and a diode below the input supply. During fast turn-on, a 1.4A pull-up (See Datasheet)", 6 CPO2 (out) "Charge Pump Output. Connect a capacitor from this pin to the corresponding VIN pin. The value of this capacitor should be approximately 10x the gate capacitance (CISS) of the MOSFET switch. The charge stored on this (See Datasheet)", 7 OUT2 (in) "Output Voltage and Current Sense Input. Connect this pin to the input side of the supply’s current sense resistor. A Kelvin connection is important for accurate current sharing. The voltage sensed at this pin is used t(See Datasheet)", 8 FETON2 (out) "MOSFET Status Output. This pin is pulled low by an internal switch when GATE is less than 0.7V above VIN to indicate an off MOSFET. Because of this, it may also signal off if small currents are flowing through a high-gm (See Datasheet)", 9 FETON1 (out) "MOSFET Status Output. This pin is pulled low by an internal switch when GATE is less than 0.7V above VIN to indicate an off MOSFET. Because of this, it may also signal off if small currents are flowing through a high-gm (See Datasheet)", 10 OUT1 (in) "Output Voltage and Current Sense Input. Connect this pin to the input side of the supply’s current sense resistor. A Kelvin connection is important for accurate current sharing. The voltage sensed at this pin is used t(See Datasheet)", 11 CPO1 (out) "Charge Pump Output. Connect a capacitor from this pin to the corresponding VIN pin. The value of this capacitor should be approximately 10x the gate capacitance (CISS) of the MOSFET switch. The charge stored on this (See Datasheet)", 12 GATE1 (out) "MOSFET Gate Drive Output.Connect this pin to the gate of the external N-channel MOSFET switch. An internal clamp limits the gate voltage to 12V above, and a diode below the input supply. During fast turn-on, a 1.4A pull-up (See Datasheet)", 13 VIN1 (power) "Voltage Sense and Supply Input. Connect this pin to the supply side of the MOSFET. The low voltage supply VCC is generated from the higher of VIN1 and VIN2. The voltage sensed at this pin is used to control the MOSFET gate."
part B pins: 1 ~{EN2} (in) "Enable Input. Keep this pin below 0.6V to enable sharing and diode control on the corresponding supply. Driving this pin high shuts off the MOSFET gate (current can still flow through its body diode). The comparator has a (See Datasheet)", 2 RANGE "Supply Differential Voltage Load Sharing Range. Connect a resistor (below 60k) from this pin to GND. A 10uA internal pull-up current source into this resistor sets the pin voltage VRANGE. The two supplies will typically (See Datasheet)", 3 COMP (out) "Error Amplifier Compensation. Connect a capacitor from this pin to GND. The value of this capacitor should be approximately 10 to 50 times the gate capacitance (CISS) of the MOSFET switch. Maintain low board leakage on this (See Datasheet)", 14 VCC (power) "Low Voltage Supply. Connect a 0.1uF capacitor from this pin to ground. For VIN >= 2.9V this pin provides decoupling for an internal regulator that generates a 5V supply. For applications where both VIN < 2.9V, also connect (See Datasheet)", 15 GND (power) "Device Ground.", 16 ~{EN1} (in) "Enable Input. Keep this pin below 0.6V to enable sharing and diode control on the corresponding supply. Driving this pin high shuts off the MOSFET gate (current can still flow through its body diode). The comparator has a (See Datasheet)"

## LTC4370CMS#TRPBF
designator U?
Two-Supply Diode-OR Current Balancing Controller, 0 to 18 V Vin, 16-pin SOP (MS-16), 0 to 70 degC, Pb-Free, Tape and Reel; Manufacturer: Linear Technology; PartNumber: LTC4370CMS#TRPBF; Ideal Diode: Dual, External, N-Channel; PackageVersion: Rev. Ø, 06/2010; PackageReference: MS16; PackageDescription: 16-Pin Plastic MSOP, Body 4.04 x 3.00 mm, Pitch 0.50 mm; Packing: Tape and Reel; RoHS: TRUE; Mounting Technology: Surface Mount; ComponentLink1Description: Manufacturer URL; ComponentLink1URL: http://www.linear.com/; ComponentLink2Description: Datasheet; ComponentLink2URL: http://cds.linear.com/docs/en/datasheet/4370f.pdf; ComponentLink3Description: Package Specification; ComponentLink3URL: http://cds.linear.com/docs/en/packaging/05081669_A_MS16.pdf
footprint LT-MS-16_N (SOP, 16-Leads, Body 4.1x3.1mm, Pitch 0.5mm, IPC Medium Density)
footprint LT-MS-16_L (SOP, 16-Leads, Body 4.1x3.1mm, Pitch 0.5mm, IPC High Density)
footprint LT-MS-16_M (SOP, 16-Leads, Body 4.1x3.1mm, Pitch 0.5mm, IPC Low Density)
part A pins: 4 VIN2 (power) "Voltage Sense and Supply Input. Connect this pin to the supply side of the MOSFET. The low voltage supply VCC is generated from the higher of VIN1 and VIN2. The voltage sensed at this pin is used to control the MOSFET gate.", 5 GATE2 (out) "MOSFET Gate Drive Output.Connect this pin to the gate of the external N-channel MOSFET switch. An internal clamp limits the gate voltage to 12V above, and a diode below the input supply. During fast turn-on, a 1.4A pull-up (See Datasheet)", 6 CPO2 (out) "Charge Pump Output. Connect a capacitor from this pin to the corresponding VIN pin. The value of this capacitor should be approximately 10x the gate capacitance (CISS) of the MOSFET switch. The charge stored on this (See Datasheet)", 7 OUT2 (in) "Output Voltage and Current Sense Input. Connect this pin to the input side of the supply’s current sense resistor. A Kelvin connection is important for accurate current sharing. The voltage sensed at this pin is used t(See Datasheet)", 8 FETON2 (out) "MOSFET Status Output. This pin is pulled low by an internal switch when GATE is less than 0.7V above VIN to indicate an off MOSFET. Because of this, it may also signal off if small currents are flowing through a high-gm (See Datasheet)", 9 FETON1 (out) "MOSFET Status Output. This pin is pulled low by an internal switch when GATE is less than 0.7V above VIN to indicate an off MOSFET. Because of this, it may also signal off if small currents are flowing through a high-gm (See Datasheet)", 10 OUT1 (in) "Output Voltage and Current Sense Input. Connect this pin to the input side of the supply’s current sense resistor. A Kelvin connection is important for accurate current sharing. The voltage sensed at this pin is used t(See Datasheet)", 11 CPO1 (out) "Charge Pump Output. Connect a capacitor from this pin to the corresponding VIN pin. The value of this capacitor should be approximately 10x the gate capacitance (CISS) of the MOSFET switch. The charge stored on this (See Datasheet)", 12 GATE1 (out) "MOSFET Gate Drive Output.Connect this pin to the gate of the external N-channel MOSFET switch. An internal clamp limits the gate voltage to 12V above, and a diode below the input supply. During fast turn-on, a 1.4A pull-up (See Datasheet)", 13 VIN1 (power) "Voltage Sense and Supply Input. Connect this pin to the supply side of the MOSFET. The low voltage supply VCC is generated from the higher of VIN1 and VIN2. The voltage sensed at this pin is used to control the MOSFET gate."
part B pins: 1 ~{EN2} (in) "Enable Input. Keep this pin below 0.6V to enable sharing and diode control on the corresponding supply. Driving this pin high shuts off the MOSFET gate (current can still flow through its body diode). The comparator has a (See Datasheet)", 2 RANGE "Supply Differential Voltage Load Sharing Range. Connect a resistor (below 60k) from this pin to GND. A 10uA internal pull-up current source into this resistor sets the pin voltage VRANGE. The two supplies will typically (See Datasheet)", 3 COMP (out) "Error Amplifier Compensation. Connect a capacitor from this pin to GND. The value of this capacitor should be approximately 10 to 50 times the gate capacitance (CISS) of the MOSFET switch. Maintain low board leakage on this (See Datasheet)", 14 VCC (power) "Low Voltage Supply. Connect a 0.1uF capacitor from this pin to ground. For VIN >= 2.9V this pin provides decoupling for an internal regulator that generates a 5V supply. For applications where both VIN < 2.9V, also connect (See Datasheet)", 15 GND (power) "Device Ground.", 16 ~{EN1} (in) "Enable Input. Keep this pin below 0.6V to enable sharing and diode control on the corresponding supply. Driving this pin high shuts off the MOSFET gate (current can still flow through its body diode). The comparator has a (See Datasheet)"